# Altium footprint library STM32_F407.PcbLib: 28 footprints (part 2 of 2)
Each footprint in its own frame and in the unit in brackets; x right, y up, seen from the top. Pads: shape width x height; smd on the part's side, far side on the other; paste and mask are expansions set on the pad; w line width, h text height; cw(c..) or ccw(c..) is an arc to the next point about the centre after c.
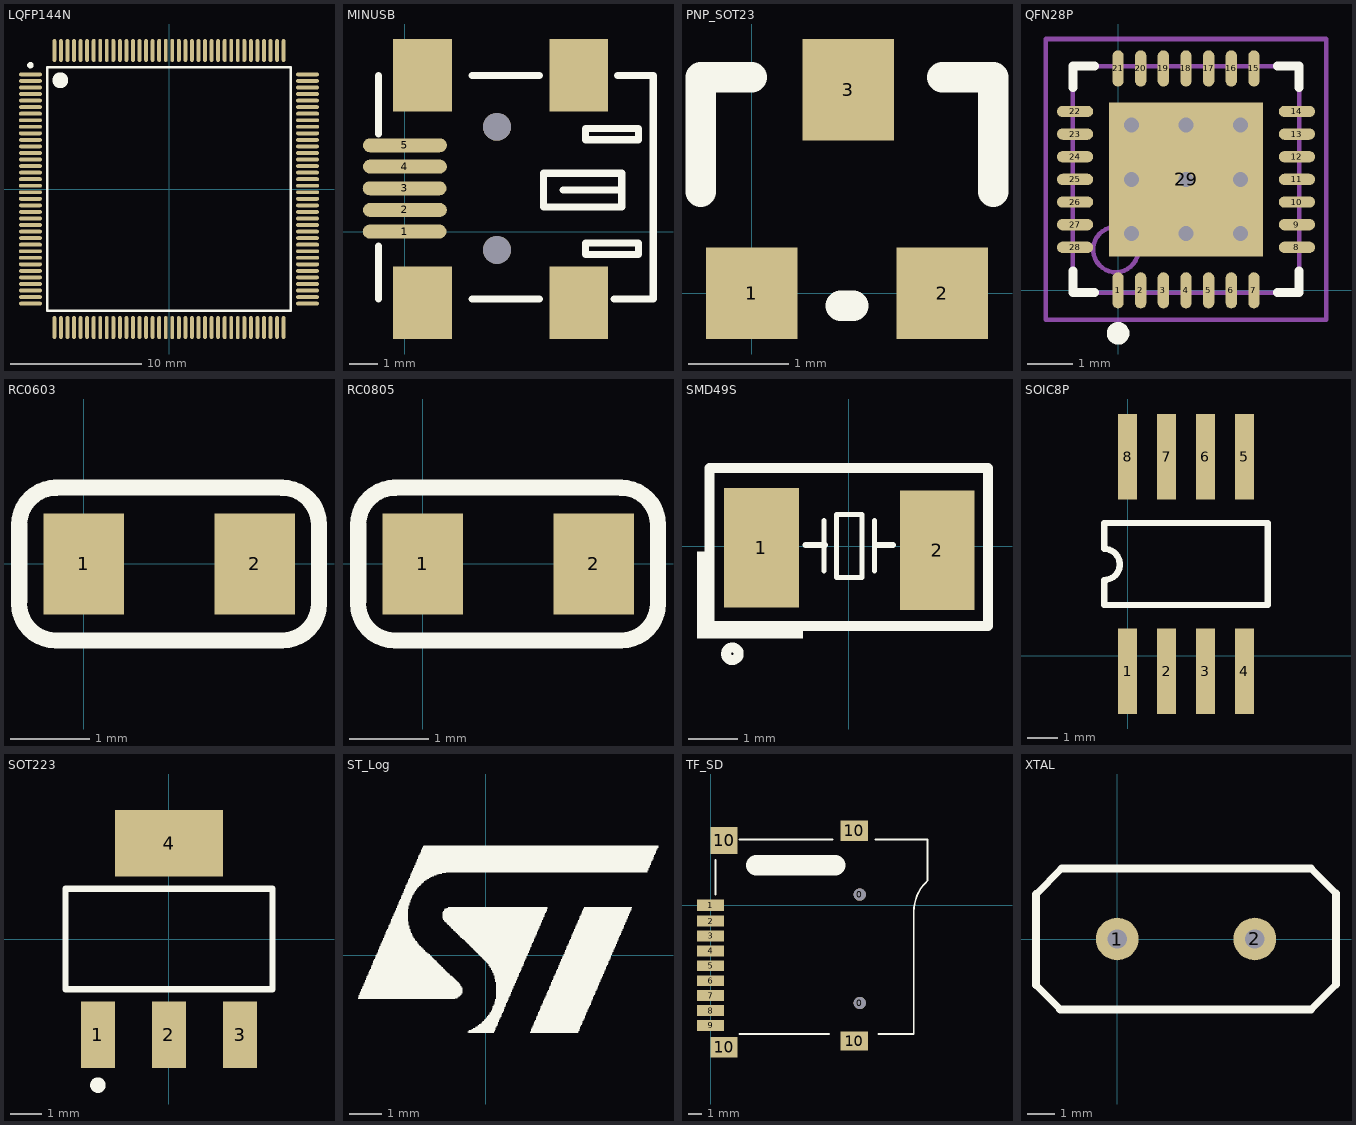
[diagram p1: the footprints below, top view; thin cyan lines are the x and y axes]

## LQFP144N [mm]
height 1.6
pads (144):
  oval 1.75x0.297 smd: 1(-10.575,8.75) 2(-10.575,8.25) 3(-10.575,7.75) 4(-10.575,7.25) 5(-10.575,6.75) 6(-10.575,6.25) 7(-10.575,5.75) 8(-10.575,5.25) 9(-10.575,4.75) 10(-10.575,4.25) 11(-10.575,3.75) 12(-10.575,3.25) 13(-10.575,2.75) 14(-10.575,2.25) 15(-10.575,1.75) 16(-10.575,1.25) 17(-10.575,0.75) 18(-10.575,0.25) 19(-10.575,-0.25) 20(-10.575,-0.75) 21(-10.575,-1.25) 22(-10.575,-1.75) 23(-10.575,-2.25) 24(-10.575,-2.75) 25(-10.575,-3.25) 26(-10.575,-3.75) 27(-10.575,-4.25) 28(-10.575,-4.75) 29(-10.575,-5.25) 30(-10.575,-5.75) 31(-10.575,-6.25) 32(-10.575,-6.75) 33(-10.575,-7.25) 34(-10.575,-7.75) 35(-10.575,-8.25) 36(-10.575,-8.75) 73(10.575,-8.75) 74(10.575,-8.25) 75(10.575,-7.75) 76(10.575,-7.25) 77(10.575,-6.75) 78(10.575,-6.25) 79(10.575,-5.75) 80(10.575,-5.25) 81(10.575,-4.75) 82(10.575,-4.25) 83(10.575,-3.75) 84(10.575,-3.25) 85(10.575,-2.75) 86(10.575,-2.25) 87(10.575,-1.75) 88(10.575,-1.25) 89(10.575,-0.75) 90(10.575,-0.25) 91(10.575,0.25) 92(10.575,0.75) 93(10.575,1.25) 94(10.575,1.75) 95(10.575,2.25) 96(10.575,2.75) 97(10.575,3.25) 98(10.575,3.75) 99(10.575,4.25) 100(10.575,4.75) 101(10.575,5.25) 102(10.575,5.75) 103(10.575,6.25) 104(10.575,6.75) 105(10.575,7.25) 106(10.575,7.75) 107(10.575,8.25) 108(10.575,8.75)
  oval 0.297x1.75 smd: 37(-8.75,-10.575) 38(-8.25,-10.575) 39(-7.75,-10.575) 40(-7.25,-10.575) 41(-6.75,-10.575) 42(-6.25,-10.575) 43(-5.75,-10.575) 44(-5.25,-10.575) 45(-4.75,-10.575) 46(-4.25,-10.575) 47(-3.75,-10.575) 48(-3.25,-10.575) 49(-2.75,-10.575) 50(-2.25,-10.575) 51(-1.75,-10.575) 52(-1.25,-10.575) 53(-0.75,-10.575) 54(-0.25,-10.575) 55(0.25,-10.575) 56(0.75,-10.575) 57(1.25,-10.575) 58(1.75,-10.575) 59(2.25,-10.575) 60(2.75,-10.575) 61(3.25,-10.575) 62(3.75,-10.575) 63(4.25,-10.575) 64(4.75,-10.575) 65(5.25,-10.575) 66(5.75,-10.575) 67(6.25,-10.575) 68(6.75,-10.575) 69(7.25,-10.575) 70(7.75,-10.575) 71(8.25,-10.575) 72(8.75,-10.575) 109(8.75,10.575) 110(8.25,10.575) 111(7.75,10.575) 112(7.25,10.575) 113(6.75,10.575) 114(6.25,10.575) 115(5.75,10.575) 116(5.25,10.575) 117(4.75,10.575) 118(4.25,10.575) 119(3.75,10.575) 120(3.25,10.575) 121(2.75,10.575) 122(2.25,10.575) 123(1.75,10.575) 124(1.25,10.575) 125(0.75,10.575) 126(0.25,10.575) 127(-0.25,10.575) 128(-0.75,10.575) 129(-1.25,10.575) 130(-1.75,10.575) 131(-2.25,10.575) 132(-2.75,10.575) 133(-3.25,10.575) 134(-3.75,10.575) 135(-4.25,10.575) 136(-4.75,10.575) 137(-5.25,10.575) 138(-5.75,10.575) 139(-6.25,10.575) 140(-6.75,10.575) 141(-7.25,10.575) 142(-7.75,10.575) 143(-8.25,10.575) 144(-8.75,10.575)
Top Overlay:
  circle w0.6: c-8.3,8.3 r0.3
  circle w0.25: c-10.575,9.45 r0.125
  lines w0.2: -9.3,-9.3 9.3,-9.3 9.3,9.3 -9.3,9.3 -9.3,-9.3

## MINUSB [mm]
pads (11):
  oval 3x0.5 smd: 1(0,0) 2(0.009,0.775) 3(0,1.549) 4(0.009,2.324) 5(0.009,3.086)
  rect 2.1x2.6 smd: ""(0.635,-2.54) ""(0.635,5.588) ""(6.223,-2.54) ""(6.223,5.588)
  round 1 hole 1: ""(3.299,-0.651) ""(3.299,3.749)
Top Overlay:
  lines w0.254: -0.938,-2.414 -0.938,-0.514 ; -0.938,3.486 -0.938,5.586 ; 2.413,-2.413 4.826,-2.413 ; 2.413,5.588 4.826,5.588 ; 5.662,1.486 7.762,1.486 ; 7.493,-2.414 8.89,-2.414 8.89,5.586 7.62,5.586 ; 4.962,0.886 4.962,2.086 7.762,2.086 7.762,0.886 4.962,0.886 ; 6.462,-0.814 8.362,-0.814 8.362,-0.414 6.462,-0.414 6.462,-0.814 ; 6.462,3.286 8.362,3.286 8.362,3.686 6.462,3.686 6.462,3.286

## PNP_SOT23 [mil]
pads (3):
  rect 36x36 smd: 1(0,0) 2(75,0)
  rect 36x40 smd: 3(38,80)
Top Overlay:
  lines w12: -20,40 -20,85 0,85 ; 35,-5 40,-5 ; 75,85 95,85 95,40

## QFN28P [mm]
pads (29):
  oval 0.25x0.8 smd: 1(0,0) 2(0.5,0) 3(1,0) 4(1.5,0) 5(2,0) 6(2.5,0) 7(3,0) 15(3,4.9) 16(2.5,4.9) 17(2,4.9) 18(1.5,4.9) 19(1,4.9) 20(0.5,4.9) 21(0,4.9)
  oval 0.8x0.25 smd: 8(3.95,0.95) 9(3.95,1.45) 10(3.95,1.95) 11(3.95,2.45) 12(3.95,2.95) 13(3.95,3.45) 14(3.95,3.95) 22(-0.95,3.95) 23(-0.95,3.45) 24(-0.95,2.95) 25(-0.95,2.45) 26(-0.95,1.95) 27(-0.95,1.45) 28(-0.95,0.95)
  rect 3.4x3.4 smd: 29(1.5,2.45)
via 0.3,1.25 diameter 0.66 hole 0.33
via 0.3,2.45 diameter 0.66 hole 0.33
via 0.3,3.65 diameter 0.66 hole 0.33
via 1.5,1.25 diameter 0.66 hole 0.33
via 1.5,2.45 diameter 0.66 hole 0.33
via 1.5,3.65 diameter 0.66 hole 0.33
via 2.7,1.25 diameter 0.66 hole 0.33
via 2.7,2.45 diameter 0.66 hole 0.33
via 2.7,3.65 diameter 0.66 hole 0.33
Top Overlay:
  circle w0.25: c0,-0.95 r0.125
  lines w0.2: -1,0.425 -1,-0.05 -0.525,-0.05 ; -1,4.475 -1,4.95 -0.525,4.95 ; 3.525,-0.05 4,-0.05 4,0.425 ; 3.525,4.95 4,4.95 4,4.475
Mechanical 13:
  circle w0.1: c-0.05,0.9 r0.5
  lines w0.1: -1,-0.05 4,-0.05 4,4.95 -1,4.95 -1,-0.05
Mechanical 15:
  lines w0.1: 1,2.45 2,2.45 ; 1.5,1.95 1.5,2.95 ; -1.6,-0.65 4.6,-0.65 4.6,5.55 -1.6,5.55 -1.6,-0.65
3D body: height 1, standoff 0.01, extent -1,-0.05 4,4.95

## RC0603 [mil]
height 39.37
pads (2):
  rect 40x50 smd: 1(0,0) 2(85,0)
Top Overlay:
  lines w8: -32.11,-19.59 ccw(c-13.7,-19.59) -13.7,-38 ; -32,-18.5 -32,18.5 ; -32,19.5 cw(c-13.59,19.5) -13.59,37.91 ; -14.12,38 98.09,38 ; -12.7,-38 98.11,-38 ; 98.59,-38 ccw(c98.59,-19.59) 117,-19.59 ; 98.59,37.91 cw(c98.59,19.5) 117,19.5 ; 117,-18.59 117,18.5
3D body "User Library-0805 SMD R.STEP": height 30.39, standoff -0.39, extent 3.26,-24.61 82,24.61

## RC0805 [mil]
height 39.37
pads (2):
  rect 40x50 smd: 1(0,0) 2(85,0)
Top Overlay:
  lines w8: -32.11,-19.59 ccw(c-13.7,-19.59) -13.7,-38 ; -32,-18.5 -32,18.5 ; -32,19.5 cw(c-13.59,19.5) -13.59,37.91 ; -14.12,38 98.09,38 ; -12.7,-38 98.11,-38 ; 98.59,-38 ccw(c98.59,-19.59) 117,-19.59 ; 98.59,37.91 cw(c98.59,19.5) 117,19.5 ; 117,-18.59 117,18.5
3D body "User Library-0805 SMD R.STEP": height 30.39, standoff -0.39, extent 3.26,-24.61 82,24.61

## SMD49S [mm]
pads (2):
  rect 1.5x2.4 smd: 1(-1.753,-0.025) 2(1.778,-0.076)
Top Overlay:
  circle w0.2: c-2.337,-2.159 r0.127
  rectangle: -3.048,-1.854 -2.87,-0.102
  rectangle: -2.921,-1.854 -0.914,-1.6
  lines w0.1: -0.496,-0.5 -0.496,0.516 ; 0.52,-0.5 0.52,0.516 ; -0.242,-0.627 0.266,-0.627 0.266,-0.309 0.266,0.326 0.266,0.643 -0.242,0.643 -0.242,-0.627
  lines w0.127: -0.864,0.025 -0.483,0.025 ; 0.559,0.025 0.889,0.025
  lines w0.2: -2.8,-1.6 -2.8,1.575 2.8,1.575 2.8,-1.6 -2.8,-1.6
3D body "User Library-CRYSTALSMD5X32.STEP": height 1, standoff 0, extent -2.5,-1.6 2.5,1.6

## SOIC8P [mil]
height 220.47
pads (8):
  rect 24x110 smd: 1(0,-20) 2(50,-20) 3(100,-20) 4(150,-20) 5(150,255) 6(100,255) 7(50,255) 8(0,255)
Top Overlay:
  lines w8: -30,65 180,65 180,170 -30,170 -30,137 cw(c-30,117) -30,97 -30,65

## SOT223 [mm] "SOT-223/SC-73; 4 Leads; Body 6.7 x 7.3 mm, inc. leads (LxW max)"
height 1.8
pads (4):
  rect 1.1x2.15 smd: 1(-2.3,-3.1) 2(0,-3.1) 3(2.3,-3.1)
  rect 3.5x2.15 smd: 4(0,3.1)
Top Overlay:
  circle w0.25: c-2.3,-4.725 r0.125
  lines w0.2: -3.35,-1.625 3.35,-1.625 3.35,1.625 -3.35,1.625 -3.35,-1.625

## ST_Log [mm]
Top Overlay:
  drawing of 499 lines, arcs and shapes, not listed

## TF_SD [mm]
pads (15):
  round 0.9 hole 0.9 unplated: 0(11,-7.2) 0(11,0.8)
  rect 2x0.85 smd: 1(0,0)
  rect 2x0.8 smd: 2(0,-1.15) 3(0,-2.25) 4(0,-3.35) 5(0,-4.45) 6(0,-5.55) 7(0,-6.65) 8(0,-7.75) 9(0,-8.85)
  rect 2x1.5 smd: 10(1,-10.45) 10(10.6,5.5)
  rect 2x2 smd: 10(1,4.8)
  rect 2x1.4 smd: 10(10.6,-10)
Top Overlay:
  lines w0.127: 2.138,-9.489 8.742,-9.489 ; 2.138,4.862 8.996,4.862 ; 12.143,4.865 15,4.865 ; 12.397,-9.486 15,-9.486 15,-1.74 15,-0.454 cw(c18.066,-0.454) 15.898,1.714 16,1.816 16,4.865 14.683,4.865
  lines w0.15: 0.36,0.798 0.36,3.338
  lines w1.5: 3.38,2.959 9.222,2.959

## XTAL [mil]
height 230.31
pads (2):
  round 62 hole 28: 1(0,0) 2(200,0)
Top Overlay:
  lines w10: -118.11,-66.93 -82.68,-102.36 ; -118.11,65.04 -80.79,102.36 ; 281.73,-102.36 318.11,-65.98 ; 281.73,102.36 318.11,65.98
  lines w12: -118.11,-66.93 -118.11,65.04 ; -82.68,-102.36 281.73,-102.36 ; -80.79,102.36 281.73,102.36 ; 318.11,-65.98 318.11,65.98